# Altium schematic symbol library STLQ020C33R.SchLib: 1 symbol
Pins are listed as number, name and electrical type; pins without a type are passive.

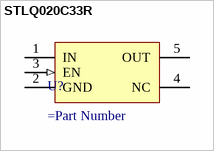
[diagram p0: symbol STLQ020C33R]

## STLQ020C33R
designator U?
=Description
pins: 1 IN (power), 2 GND (power), 3 EN (in), 4 NC, 5 OUT (power)